# Altium schematic symbol library LTC2051HV.SchLib: 1 symbol
Pins are listed as number, name and electrical type; pins without a type are passive.

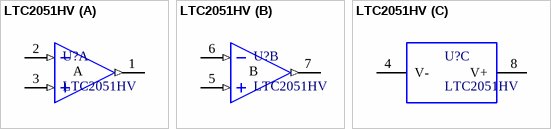
[diagram p0: symbol LTC2051HV]

## LTC2051HV
designator U?
part A pins: 1 OUT (out), 2 IN- (in), 3 IN+ (in)
part B pins: 5 IN+ (in), 6 IN- (in), 7 OUT (out)
part C pins: 4 V- (power), 8 V+ (power)
part A text: A
part B text: B